# EAGLE library part MCP4151-103E/P (library STM_Library)
Single/Dual SPI Digital POT
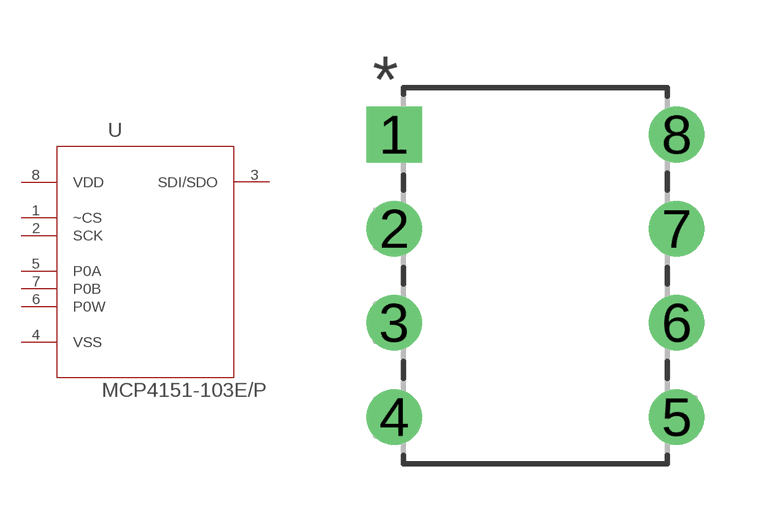
[diagram p6: symbol with the pads of DIP254P762X533-8; footprint DIP254P762X533-8]

Designator prefix -

## MCP4151-103E/P (AVAILABILITY: Unavailable; DESCRIPTION: Digital Potentiometer 256POS 10KOhm Single 8-Pin PDIP Tube; MF: Microchip; MP: MCP4151-103E/P; PACKAGE: PDIP-8 Microchip; PRICE: None)  [DIP254P762X533-8]
1  ~CS  in
2  SCK  in
3  SDI/SDO
4  VSS  pas
5  P0A  pas
6  P0W  pas
7  P0B  pas
8  VDD  pwr

## Footprint DIP254P762X533-8 (pad centres in mm)
drill 0.991 square: 1 -7.62,7.62
drill 0.991: 2 -7.62,5.08; 3 -7.62,2.54; 4 -7.62,0; 5 0,0; 6 0,2.54; 7 0,5.08; 8 0,7.62